# Altium schematic symbol library TDA1543.SchLib: 2 symbols
Pins are listed as number, name and electrical type; pins without a type are passive.

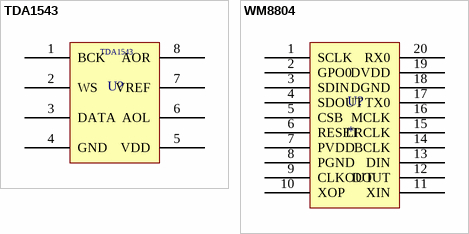
[diagram p0: symbols TDA1543 to WM8804]

## TDA1543
designator U?  (value not drawn)
pins: 1 BCK, 2 WS, 3 DATA, 4 GND, 5 VDD, 6 AOL, 7 VREF, 8 AOR

## WM8804
designator U?
HelpURL: https://d3uzseaevmutz1.cloudfront.net/pubs/proDatasheet/WM8804_v4.5.pdf
pins: 1 SCLK, 2 GPO0, 3 SDIN, 4 SDOUT, 5 CSB, 6 RESET, 7 PVDD, 8 PGND, 9 CLKOUT, 10 XOP, 11 XIN, 12 DOUT, 13 DIN, 14 BCLK, 15 LRCLK, 16 MCLK, 17 TX0, 18 DGND, 19 DVDD, 20 RX0